# Altium footprint library Footprints.PcbLib: 39 footprints (part 3 of 3)
Each footprint in its own frame and in the unit in brackets; x right, y up, seen from the top. Pads: shape width x height; smd on the part's side, far side on the other; paste and mask are expansions set on the pad; w line width, h text height; cw(c..) or ccw(c..) is an arc to the next point about the centre after c.
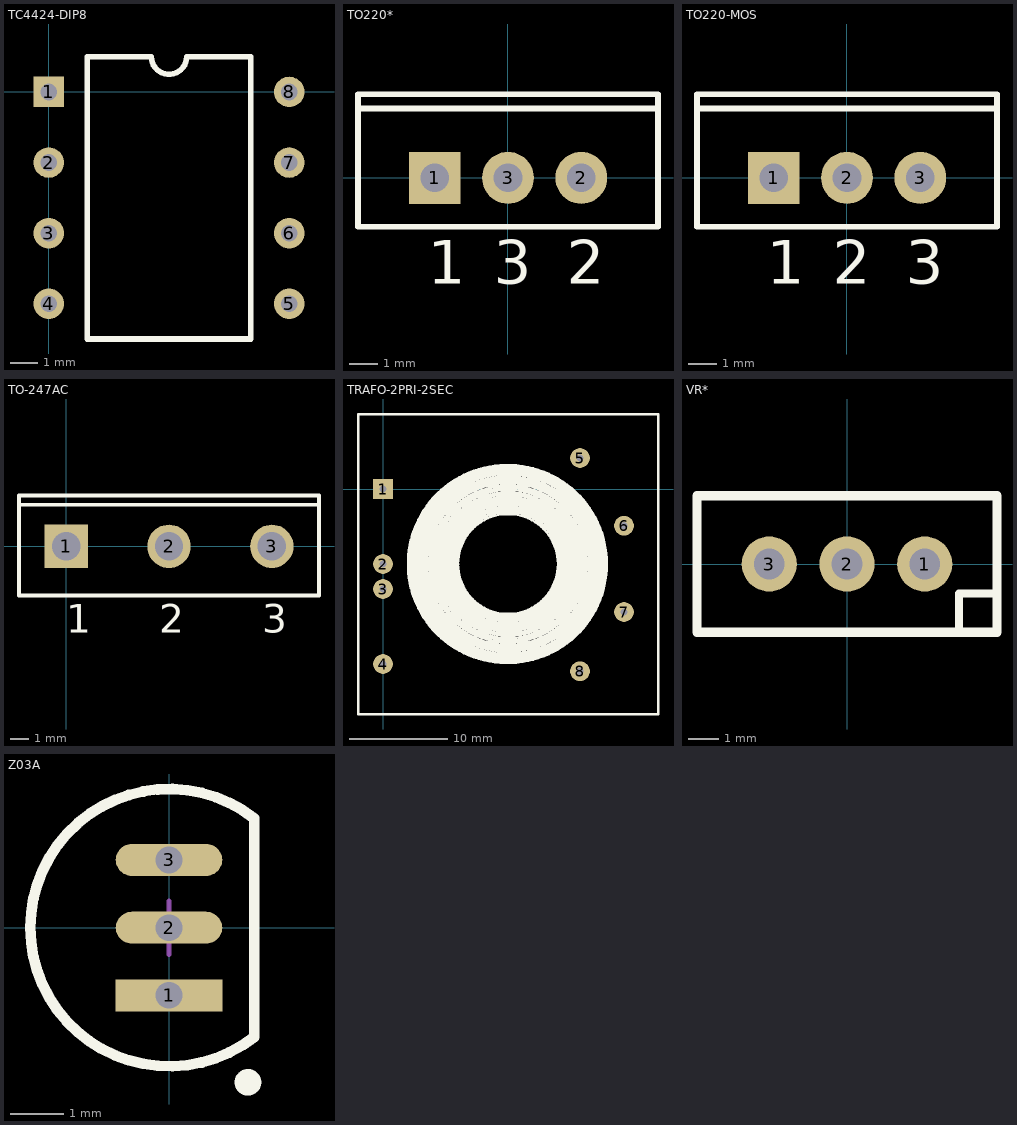
[diagram p2: the footprints below, top view; thin cyan lines are the x and y axes]

## TC4424-DIP8 [mm]
pads (8):
  rect 1.1x1.1 hole 0.6: 1(0,0)
  round 1.1 hole 0.6: 2(0,-2.54) 3(0,-5.08) 4(0,-7.62) 5(8.65,-7.62) 6(8.65,-5.08) 7(8.65,-2.54) 8(8.65,0)
Top Overlay:
  lines w0.2: 1.385,-8.89 1.385,1.27 3.69,1.27 ccw(c4.325,1.27) 4.96,1.27 7.265,1.27 7.265,-8.89 1.385,-8.89

## TO220* [mm] "TO, Thru-Hole, Vertical, Heatsink Mounted; 3 In-Line Leads; Pitch 2.54 mm; Pin sequence 1, 3, 2"
height 19.4
pads (3):
  rect 1.8x1.8 hole 1: 1(-2.54,0)
  round 1.8 hole 1: 2(2.54,0) 3(0,0)
Top Overlay:
  lines w0.2: -5.2,2.4 5.2,2.4 ; -5.2,-1.7 5.2,-1.7 5.2,2.9 -5.2,2.9 -5.2,-1.7
  text "3" at -0.5,-3.675 h1.5
  text "2" at 2.04,-3.675 h1.5
  text "1" at -2.79,-3.675 h1.5

## TO220-MOS [mm] "TO, Thru-Hole, Vertical, Heatsink Mounted; 3 In-Line Leads; Pitch 2.54 mm; Pin sequence 1, 3, 2"
height 19.4
pads (3):
  rect 1.8x1.8 hole 1: 1(-2.54,0)
  round 1.8 hole 1: 2(0,0) 3(2.54,0)
Top Overlay:
  lines w0.2: -5.2,2.4 5.2,2.4 ; -5.2,-1.7 5.2,-1.7 5.2,2.9 -5.2,2.9 -5.2,-1.7
  text "2" at -0.5,-3.675 h1.5
  text "3" at 2.04,-3.675 h1.5
  text "1" at -2.79,-3.675 h1.5

## TO-247AC [mm] "SIP with Mounting Hole; 3 Leads; Body 20 x 15.6 x 5 mm (typ); Pitch 5.45 mm"
height 24.6
pads (3):
  rect 2.3x2.3 hole 1.5: 1(0,0)
  round 2.3 hole 1.5: 2(5.45,0) 3(10.9,0)
Top Overlay:
  lines w0.2: -2.5,2.2 13.4,2.2 ; -2.5,-2.6 13.4,-2.6 13.4,2.7 -2.5,2.7 -2.5,-2.6
  text "1" at 0,-4.575 h1.5
  text "2" at 4.942,-4.575 h1.5
  text "3" at 10.392,-4.575 h1.5

## TRAFO-2PRI-2SEC [mm]
pads (8):
  rect 2x2 hole 0.75: 1(0,0)
  round 2 hole 0.75: 2(0,-7.62) 3(0,-10.16) 4(0,-17.78) 5(20.015,3.15) 6(24.486,-3.734) 7(24.486,-12.497) 8(20.015,-18.517)
Top Overlay:
  circle w0.254: c12.7,-7.62 r6.605
  circle w0.254: c12.7,-7.62 r6.351
  circle w0.254: c12.7,-7.62 r5.354
  circle w0.254: c12.7,-7.62 r5.293
  circle w0.254: c12.7,-7.62 r10.04
  circle w0.254: c12.7,-7.62 r9.8
  circle w0.254: c12.7,-7.62 r9.906
  circle w0.254: c12.7,-7.62 r9.652
  circle w0.254: c12.7,-7.62 r9.399
  circle w0.254: c12.7,-7.62 r9.145
  circle w0.254: c12.7,-7.62 r8.767
  circle w0.254: c12.7,-7.62 r8.651
  circle w0.254: c12.7,-7.62 r8.375
  circle w0.254: c12.7,-7.62 r7.972
  circle w0.254: c12.7,-7.62 r7.723
  circle w0.254: c12.7,-7.62 r7.186
  circle w0.254: c12.7,-7.62 r6.749
  circle w0.254: c12.7,-7.62 r5.576
  circle w0.254: c12.7,-7.62 r6.087
  circle w0.254: c12.7,-7.62 r5.872
  circle w0.254: c12.7,-7.62 r5.708
  circle w0.254: c12.7,-7.62 r6.266
  circle w0.254: c12.7,-7.62 r6.517
  circle w0.254: c12.7,-7.62 r6.839
  circle w0.254: c12.7,-7.62 r7.045
  circle w0.254: c12.7,-7.62 r7.288
  circle w0.254: c12.7,-7.62 r7.514
  circle w0.254: c12.7,-7.62 r7.911
  circle w0.254: c12.7,-7.62 r8.209
  circle w0.254: c12.7,-7.62 r8.538
  circle w0.254: c12.7,-7.62 r8.924
  circle w0.254: c12.7,-7.62 r9.254
  circle w0.254: c12.7,-7.62 r9.481
  circle w0.254: c12.7,-7.62 r9.828
  circle w0.254: c12.7,-7.493 r5.51
  circle w0.254: c12.7,-7.493 r5.236
  circle w0.254: c12.7,-7.62 r5.08
  circle w0.254: c12.594,-7.62 r10.055
  lines w0.254: -2.54,-22.86 27.94,-22.86 27.94,7.62 -2.54,7.62 -2.54,-22.86

## VR* [mm] "preset multivuelta vertical"
pads (3):
  round 1.8 hole 1: 1(2.54,0) 2(0,0) 3(-2.54,0)
Top Overlay:
  lines w0.254: 3.658,-2.235 3.658,-0.965 4.877,-0.965
  lines w0.305: -4.902,-2.235 4.902,-2.235 4.902,2.235 -4.902,2.235 -4.902,-2.235

## Z03A [mm] "TO, Flat Index; 3 In-Line, Axial Leads; Body Dia. 5mm; Leads 0.55 x 0.50 mm (max)"
height 5.2
pads (3):
  rect 2x0.6 hole 0.5: 1(0,-1.27)
  oval 2x0.6 hole 0.5: 2(0,0) 3(0,1.27)
Top Overlay:
  circle w0.25: c1.48,-2.9 r0.125
  lines w0.2: 1.601,-2.049 cw(c0,0) 1.601,2.049 1.6,-2.049
Mechanical 13:
  lines w0.1: 1.601,-2.049 cw(c0,0) 1.601,2.049 1.6,-2.049
Mechanical 15:
  lines w0.1: -0.5,0 0.5,0 ; 0,-0.5 0,0.5
3D body: height 5.2, standoff 0, extent -2.612,-2.612 1.6,2.612